# EAGLE library part FLAT-FLEX-CONNECTOR-RA-10POS (library FlashPCB_Connectors)
FLAT-FLEX-CONNECTOR-RA-10POS - Flat Flex Connector 10 position Right Angle Technical Specifications: Number of Positions: 10 Contact: Top or Bottom Mount: Right Angle
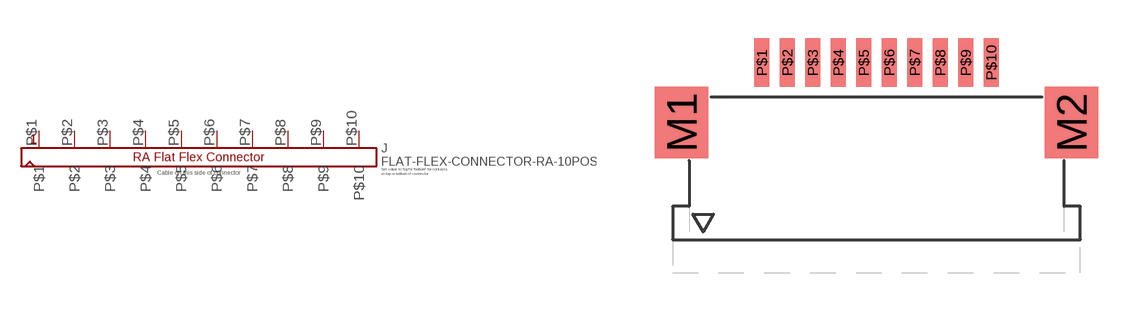
[diagram p108: symbol with the pads of FLAT-FLEX-CONNECTOR-MOLEX-522XX-RA-10POS; footprint FLAT-FLEX-CONNECTOR-MOLEX-522XX-RA-10POS]

Designator prefix J

## FLAT-FLEX-CONNECTOR-RA-10POS1MM-PITCH  [FLAT-FLEX-CONNECTOR-MOLEX-522XX-RA-10POS]
P$1  P$1
P$2  P$2
P$3  P$3
P$4  P$4
P$5  P$5
P$6  P$6
P$7  P$7
P$8  P$8
P$9  P$9
P$10  P$10

## Footprint FLAT-FLEX-CONNECTOR-MOLEX-522XX-RA-10POS (pad centres in mm)
smd 2.1 x 2.8: M1 -7.65,-1.4; M2 7.65,-1.4
smd 0.6 x 1.9: P$1 -4.5,0.95; P$2 -3.5,0.95; P$3 -2.5,0.95; P$4 -1.5,0.95; P$5 -0.5,0.95; P$6 0.5,0.95; P$7 1.5,0.95; P$8 2.5,0.95; P$9 3.5,0.95; P$10 4.5,0.95